# Altium footprint library 超实用封装库(专用C).PcbLib: 106 footprints (part 2 of 7)
Each footprint in its own frame and in the unit in brackets; x right, y up, seen from the top. Pads: shape width x height; smd on the part's side, far side on the other; paste and mask are expansions set on the pad; w line width, h text height; cw(c..) or ccw(c..) is an arc to the next point about the centre after c.
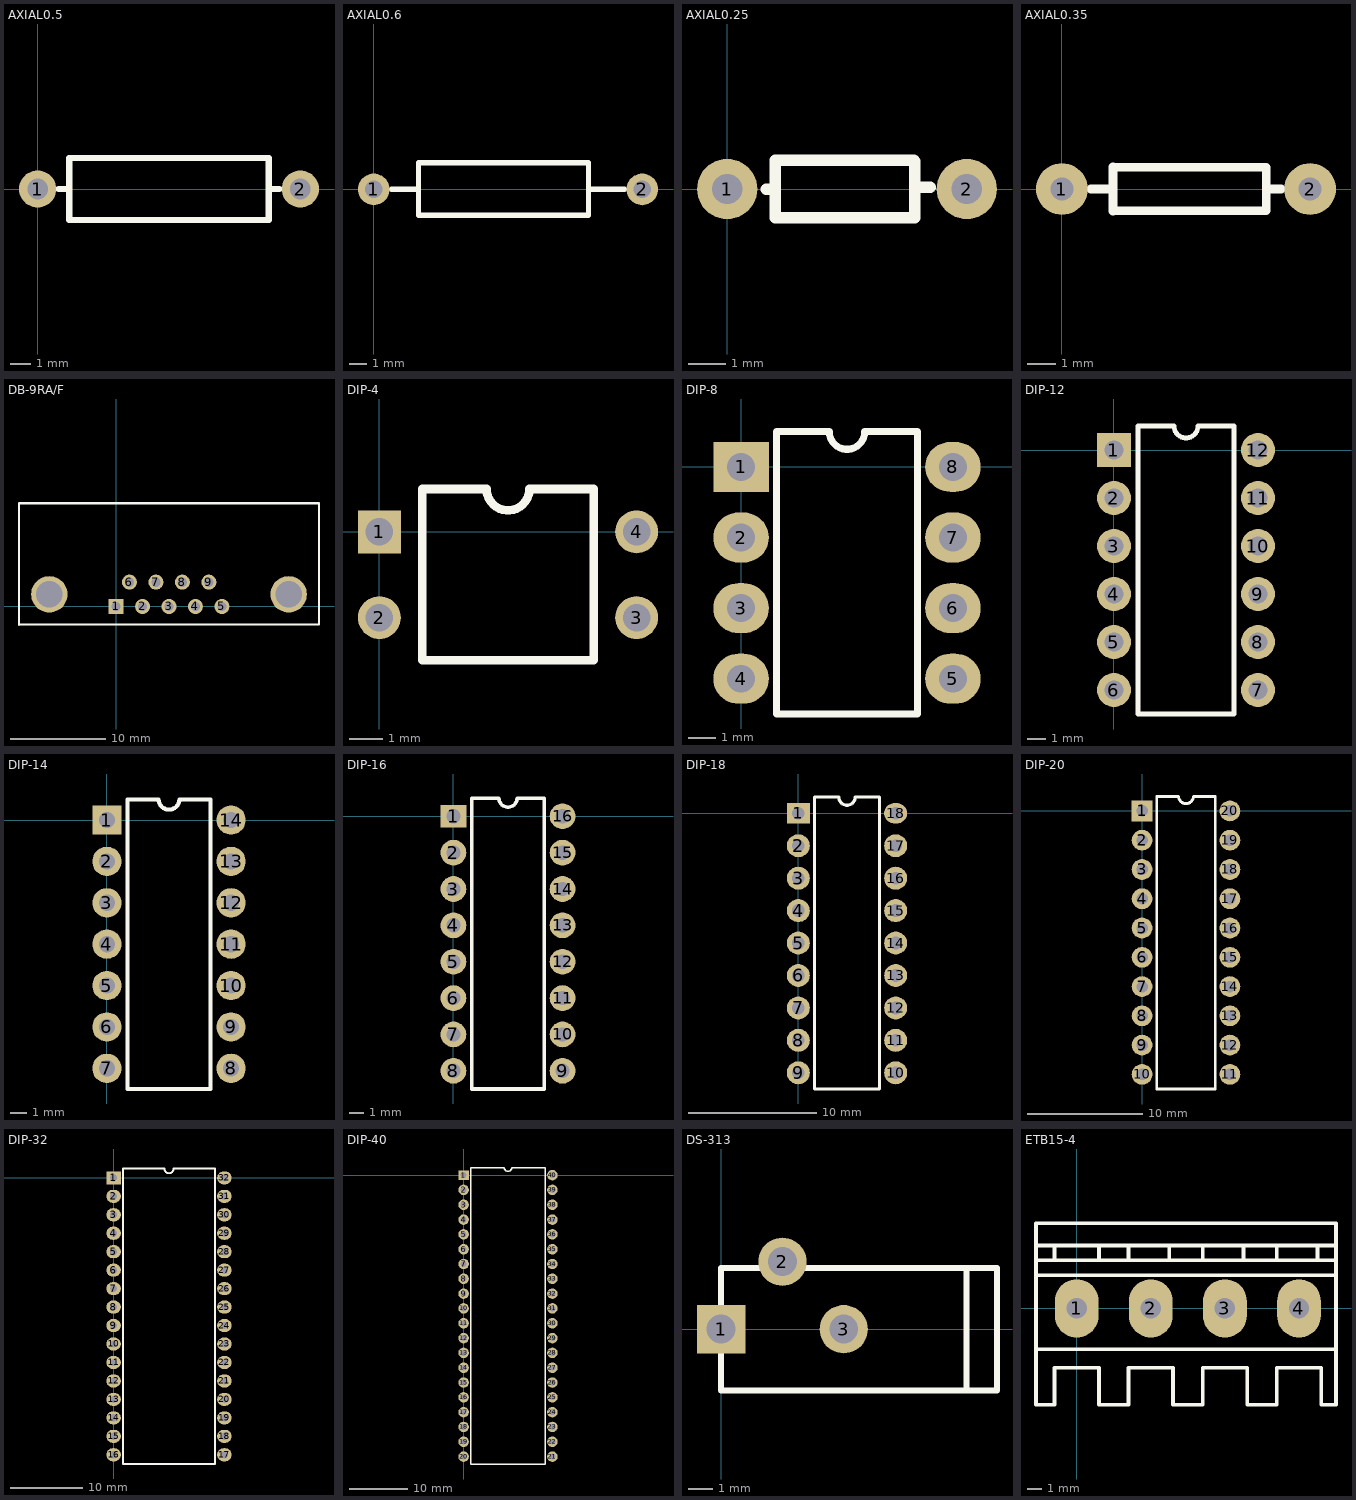
[diagram p1: the footprints below, top view; thin cyan lines are the x and y axes]

## AXIAL0.5 [mm]
pads (2):
  round 1.8 hole 1: 1(0,0) 2(12.7,0)
TopOverlay:
  lines w0.3: 11.176,-1.5 11.176,1.5
  lines w0.305: 1.016,0 1.524,0 ; 11.176,-1.5 1.524,-1.5 1.524,1.5 11.176,1.5 ; 11.176,0 11.684,0

## AXIAL0.6 [mm]
pads (2):
  round 1.8 hole 1: 1(0,0) 2(15.24,0)
TopOverlay:
  lines w0.3: 12.192,-1.476 12.192,1.524
  lines w0.305: 1.016,0 2.54,0 ; 12.192,-1.476 2.54,-1.476 2.54,1.524 12.192,1.524 ; 12.192,0 14.224,0

## AXIAL0.25 [mm]
pads (2):
  round 1.6 hole 0.8: 1(0,0) 2(6.35,0)
TopOverlay:
  lines w0.3: 1.27,-0.762 4.974,-0.762 4.974,0.738 4.95,0.762 1.27,0.762
  lines w0.305: 1.041,0 1.27,0 ; 1.27,-0.762 1.27,0.762 ; 5.148,0.042 5.377,0.042

## AXIAL0.35 [mm]
pads (2):
  round 1.8 hole 0.8: 1(0,0) 2(8.636,0)
TopOverlay:
  lines w0.3: 1.778,-0.762 1.778,0.762 7.112,0.762 7.112,0 7.112,-0.762 1.778,-0.762
  lines w0.305: 1.016,0 1.778,0 ; 1.778,-0.762 1.778,0.762 ; 7.112,0 7.62,0

## DB-9RA/F [mil]
pads (11):
  rect 62x62 hole 38: 1(0,0)
  round 62 hole 38: 2(109,0) 3(218,0) 4(327,0) 5(436,0) 6(55,100) 7(164,100) 8(273,100) 9(382,100)
  round 150 hole 110: ""(-275,50) ""(711,50)
TopOverlay:
  lines w8: -400,-75 836,-75 836,425
  lines w10: -400,-75 -400,425 836,425

## DIP-4 [mil]
pads (4):
  rect 50x50 hole 32: 1(0,0)
  round 50 hole 32: 2(0,-100) 3(300,-100) 4(300,0)
TopOverlay:
  lines w10: 50,-150 50,50 125,50 ccw(c150,50) 175,50 250,50 250,-150 50,-150

## DIP-8 [mm]
pads (8):
  rect 2x1.8 hole 1: 1(0,0)
  oval 2x1.8 hole 1: 2(0,-2.54) 3(0,-5.08) 4(0,-7.62) 5(7.62,-7.62) 6(7.62,-5.08) 7(7.62,-2.54) 8(7.62,0)
TopOverlay:
  lines w0.254: 1.27,-8.89 1.27,1.27 3.175,1.27 ccw(c3.81,1.27) 4.445,1.27 6.35,1.27 6.35,-8.89 1.27,-8.89

## DIP-12 [mm]
pads (12):
  rect 1.8x1.8 hole 1: 1(0,0)
  round 1.8 hole 1: 2(0,-2.54) 3(0,-5.08) 4(0,-7.62) 5(0,-10.16) 6(0,-12.7) 7(7.62,-12.7) 8(7.62,-10.16) 9(7.62,-7.62) 10(7.62,-5.08) 11(7.62,-2.54) 12(7.62,0)
TopOverlay:
  lines w0.254: 1.27,-13.97 1.27,1.27 3.175,1.27 ccw(c3.81,1.27) 4.445,1.27 6.35,1.27 6.35,-13.97 1.27,-13.97

## DIP-14 [mm]
pads (14):
  rect 1.8x1.8 hole 1: 1(0,0)
  round 1.8 hole 1: 2(0,-2.54) 3(0,-5.08) 4(0,-7.62) 5(0,-10.16) 6(0,-12.7) 7(0,-15.24) 8(7.62,-15.24) 9(7.62,-12.7) 10(7.62,-10.16) 11(7.62,-7.62) 12(7.62,-5.08) 13(7.62,-2.54) 14(7.62,0)
TopOverlay:
  lines w0.254: 1.27,-16.51 1.27,1.27 3.175,1.27 ccw(c3.81,1.27) 4.445,1.27 6.35,1.27 6.35,-16.51 1.27,-16.51

## DIP-16 [mm]
pads (16):
  rect 1.8x1.6 hole 1: 1(0,0)
  round 1.8 hole 1: 2(0,-2.54) 3(0,-5.08) 4(0,-7.62) 5(0,-10.16) 6(0,-12.7) 7(0,-15.24) 8(0,-17.78) 9(7.62,-17.78) 10(7.62,-15.24) 11(7.62,-12.7) 12(7.62,-10.16) 13(7.62,-7.62) 14(7.62,-5.08) 15(7.62,-2.54) 16(7.62,0)
TopOverlay:
  lines w0.254: 1.27,-19.05 6.35,-19.05 6.35,1.27 4.445,1.27 cw(c3.81,1.27) 3.175,1.27 1.27,1.27 1.27,-19.05

## DIP-18 [mm]
pads (18):
  rect 1.8x1.6 hole 1: 1(0,0)
  round 1.8 hole 1: 2(0,-2.54) 3(0,-5.08) 4(0,-7.62) 5(0,-10.16) 6(0,-12.7) 7(0,-15.24) 8(0,-17.78) 9(0,-20.32) 10(7.62,-20.32) 11(7.62,-17.78) 12(7.62,-15.24) 13(7.62,-12.7) 14(7.62,-10.16) 15(7.62,-7.62) 16(7.62,-5.08) 17(7.62,-2.54)
  oval 1.8x1.6 hole 1: 18(7.62,0)
TopOverlay:
  lines w0.254: 1.27,-21.59 6.35,-21.59 6.35,1.27 4.445,1.27 cw(c3.81,1.27) 3.175,1.27 1.27,1.27 1.27,-21.59

## DIP-20 [mm]
pads (20):
  rect 1.8x1.8 hole 1: 1(0,0)
  round 1.8 hole 1: 2(0,-2.54) 3(0,-5.08) 4(0,-7.62) 5(0,-10.16) 6(0,-12.7) 7(0,-15.24) 8(0,-17.78) 9(0,-20.32) 10(0,-22.86) 11(7.62,-22.86) 12(7.62,-20.32) 13(7.62,-17.78) 14(7.62,-15.24) 15(7.62,-12.7) 16(7.62,-10.16) 17(7.62,-7.62) 18(7.62,-5.08) 19(7.62,-2.54) 20(7.62,0)
TopOverlay:
  lines w0.254: 1.27,-24.13 1.27,1.27 3.175,1.27 ccw(c3.81,1.27) 4.445,1.27 6.35,1.27 6.35,-24.13 1.27,-24.13

## DIP-32 [mm]
pads (32):
  rect 2x1.8 hole 1: 1(0,0)
  oval 2x1.8 hole 1: 2(0,-2.54) 3(0,-5.08) 4(0,-7.62) 5(0,-10.16) 6(0,-12.7) 7(0,-15.24) 8(0,-17.78) 9(0,-20.32) 10(0,-22.86) 11(0,-25.4) 12(0,-27.94) 13(0,-30.48) 14(0,-33.02) 15(0,-35.56) 16(0,-38.1) 17(15.24,-38.1) 18(15.24,-35.56) 19(15.24,-33.02) 20(15.24,-30.48) 21(15.24,-27.94) 22(15.24,-25.4) 23(15.24,-22.86) 24(15.24,-20.32) 25(15.24,-17.78) 26(15.24,-15.24) 27(15.24,-12.7) 28(15.24,-10.16) 29(15.24,-7.62) 30(15.24,-5.08) 31(15.24,-2.54) 32(15.24,0)
TopOverlay:
  lines w0.254: 1.27,-39.37 13.97,-39.37 13.97,1.27 8.255,1.27 cw(c7.62,1.27) 6.985,1.27 1.27,1.27 1.27,-39.37

## DIP-40 [mm]
pads (40):
  rect 1.8x1.6 hole 1: 1(0,0)
  round 1.8 hole 1: 2(0,-2.54) 3(0,-5.08) 4(0,-7.62) 5(0,-10.16) 6(0,-12.7) 7(0,-15.24) 8(0,-17.78) 9(0,-20.32) 10(0,-22.86) 11(0,-25.4) 12(0,-27.94) 13(0,-30.48) 14(0,-33.02) 15(0,-35.56) 16(0,-38.1) 17(0,-40.64) 18(0,-43.18) 19(0,-45.72) 20(0,-48.26) 21(15.24,-48.26) 22(15.24,-45.72) 23(15.24,-43.18) 24(15.24,-40.64) 25(15.24,-38.1) 26(15.24,-35.56) 27(15.24,-33.02) 28(15.24,-30.48) 29(15.24,-27.94) 30(15.24,-25.4) 31(15.24,-22.86) 32(15.24,-20.32) 33(15.24,-17.78) 34(15.24,-15.24) 35(15.24,-12.7) 36(15.24,-10.16) 37(15.24,-7.62) 38(15.24,-5.08) 39(15.24,-2.54) 40(15.24,0)
TopOverlay:
  lines w0.254: 1.27,-49.53 1.27,1.27 6.985,1.27 ccw(c7.62,1.27) 8.255,1.27 13.97,1.27 13.97,-49.53 1.27,-49.53

## DS-313 [mm]
pads (3):
  rect 2x2 hole 1.2: 1(0,0)
  round 2 hole 1.2: 2(2.54,2.794) 3(5.08,0)
TopOverlay:
  lines w0.254: 10.16,-2.54 10.16,2.54 ; 0,-2.54 0,2.54 11.43,2.54 11.43,-2.54 0,-2.54

## ETB15-4 [mm]
pads (4):
  oval 3x4 hole 1.4: 1(0,0) 2(5.08,0) 3(10.16,0) 4(15.24,0)
TopOverlay:
  lines w0.254: -2.794,-2.794 7.874,-2.794 ; -2.794,2.286 7.874,2.286 17.78,2.286 ; -2.794,3.302 7.874,3.302 17.78,3.302 ; -2.794,4.318 7.874,4.318 17.78,4.318 ; -1.524,3.302 -1.524,4.318 1.524,4.318 1.524,3.302 3.556,3.302 3.556,4.318 6.35,4.318 6.35,3.302 ; 7.62,-2.794 17.78,-2.794 ; 8.636,3.302 8.636,4.318 ; 11.43,3.302 11.43,4.318 ; 13.716,3.302 13.716,4.318 ; 16.51,3.302 16.51,4.318 ; -2.794,-6.604 -2.794,5.842 7.874,5.842 17.78,5.842 17.78,-6.604 16.764,-6.604 16.764,-4.064 13.716,-4.064 13.716,-6.604 11.684,-6.604 11.684,-4.064 8.636,-4.064 8.636,-6.604 6.604,-6.604 6.604,-4.064 3.556,-4.064 3.556,-6.604 1.524,-6.604 1.524,-4.064 -1.524,-4.064 -1.524,-6.604 -2.794,-6.604